# Altium footprint library 3314G-1-102E.PcbLib: 1 footprints
Each footprint in its own frame and in the unit in brackets; x right, y up, seen from the top. Pads: shape width x height; smd on the part's side, far side on the other; paste and mask are expansions set on the pad; w line width, h text height; cw(c..) or ccw(c..) is an arc to the next point about the centre after c.
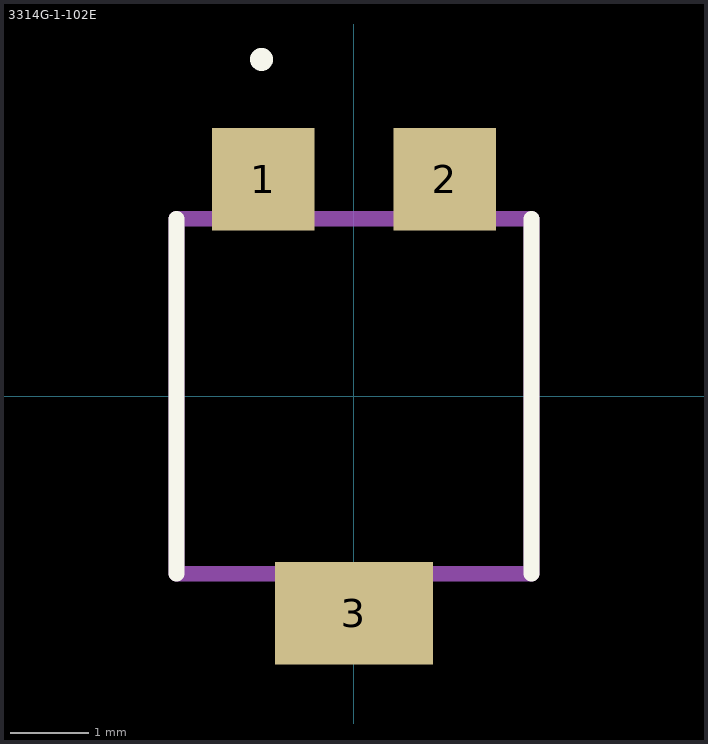
[diagram p0: the footprint, top view; thin cyan lines are the x and y axes]

## 3314G-1-102E [mm]
pads (3):
  rect 1.3x1.3 smd: 1(-1.15,2.75) 2(1.15,2.75)
  rect 2x1.3 smd: 3(0,-2.75)
L26-Silk Screen Top (Multiple PADS layers...):
  circle w0.2: c-1.172,4.268 r0.045
  lines w0.2: -2.25,-2.25 -2.25,2.25 ; 2.25,-2.25 2.25,2.25
L15 (Multiple PADS layers...):
  lines w0.2: -2.25,-2.25 2.25,-2.25 2.25,2.25 -2.25,2.25 -2.25,-2.25
3D body "3314g-1-100e.stp": height 2.67, standoff -0.06, extent -2.499,-3.15 2.5,3.048